# EAGLE library part DIP-SW-03 (library ee2parts)
DIL/CODE SWITCH
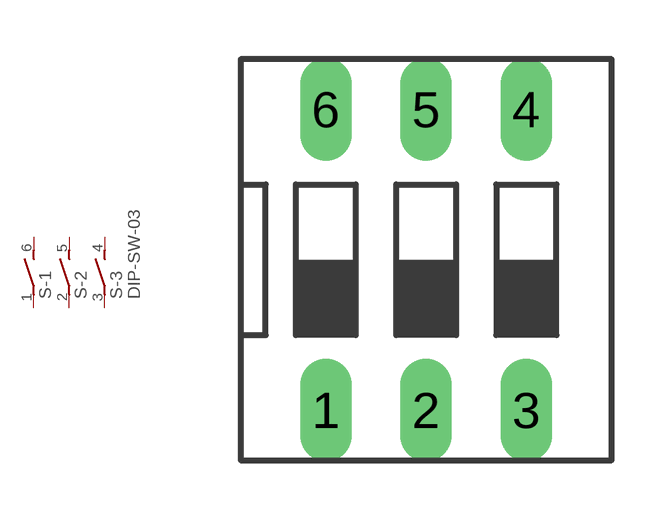
[diagram p8: symbol with the pads of DIP-SW-3; footprint DIP-SW-3]

Designator prefix S; gates -1=S -2=S -3=S+V

## DIP-SW-03  [DIP-SW-3]
1  -1:1  pas
2  -2:1  pas
3  -3:1  pas
4  -3:2  pas
5  -2:2  pas
6  -1:2  pas

## Footprint DIP-SW-3 (pad centres in mm)
DIL/CODE SWITCH Mors distributor Buerklin, 17G552
drill 0.8 long: 1 -2.54,-3.81; 2 0,-3.81; 3 2.54,-3.81; 4 2.54,3.81; 5 0,3.81; 6 -2.54,3.81